# Altium schematic symbol library ALL.SchLib: 2 symbols
Pins are listed as number, name and electrical type; pins without a type are passive.

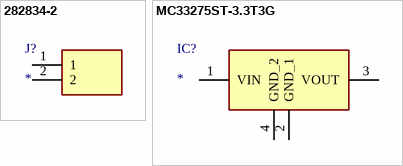
[diagram p0: symbols 282834-2 to MC33275ST-3.3T3G]

## 282834-2
designator J?
Connector; Manufacturer_Name: TE Connectivity; Manufacturer_Part_Number: 282834-2; Description: Termi-Block 2 way pcb r/a Termi-Block 2 way pcb r/a; Allied_Number: 70086732; Datasheet Link: http://www.te.com/commerce/DocumentDelivery/DDEController?Action=showdoc&DocId=Catalog+Section%7F1308389_EUROSTYLE_TERMINAL_BLOCKS%7F0607%7Fpdf%7FEnglish%7FENG_CS_1308389_EUROSTYLE_TERMINAL_BLOCKS_0607.pdf%7F282834-2.pdf; Mouser Part Number: 571-282834-2; Mouser Price/Stock: https://www.mouser.com/Search/Refine.aspx?Keyword=571-282834-2; RS Part Number: 7100104P; RS Price/Stock: http://uk.rs-online.com/web/p/products/7100104P; Allied Price/Stock: http://www.alliedelec.com/te-connectivity-282834-2/70086732/
footprint 282834-2_1
pins: 1, 2

## MC33275ST-3.3T3G
designator IC?
Integrated Circuit; Manufacturer_Name: ON Semiconductor; Manufacturer_Part_Number: MC33275ST-3.3T3G; Allied_Number: 70340056; Datasheet Link: http://www.onsemi.com/pub/Collateral/MC33275-D.PDF; Height: 1.75mm; Mouser Part Number: 863-MC33275ST-3.3T3G; Mouser Price/Stock: https://www.mouser.com/Search/Refine.aspx?Keyword=863-MC33275ST-3.3T3G; RS Part Number: 7856910P; RS Price/Stock: http://uk.rs-online.com/web/p/products/7856910P; Allied Price/Stock: https://www.alliedelec.com/on-semiconductor-mc33275st-3-3t3g/70340056/
footprint SOT230P700X175-4N
pins: 1 VIN, 2 GND_1, 3 VOUT, 4 GND_2